# EAGLE library part AMP-174051-2_040_MULTILOCK (library Liu-Ford-ACP-AUX)
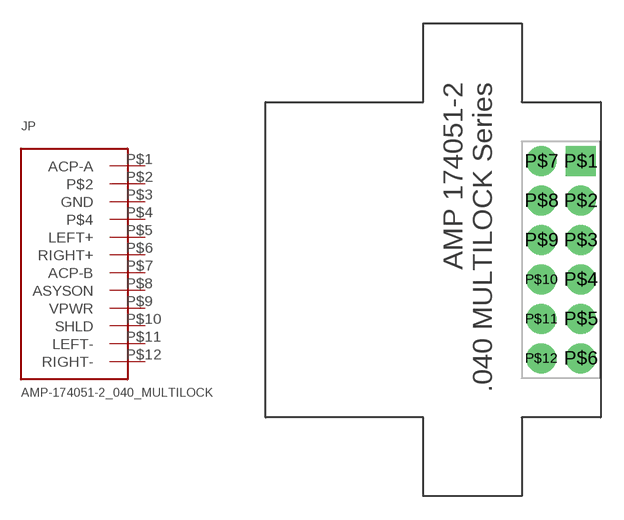
[diagram p0: symbol with the pads of AMP_174051-2_040_MULTILOCK; footprint AMP_174051-2_040_MULTILOCK]

Designator prefix JP

## AMP-174051-2_040_MULTILOCK  [AMP_174051-2_040_MULTILOCK]
P$1  ACP-A
P$2  P$2  nc
P$3  GND  pwr
P$4  P$4  nc
P$5  LEFT+  out
P$6  RIGHT+  out
P$7  ACP-B
P$8  ASYSON  in
P$9  VPWR  pwr
P$10  SHLD  pas
P$11  LEFT-  in
P$12  RIGHT-  in

## Footprint AMP_174051-2_040_MULTILOCK (pad centres in mm)
drill 1.016 pad 1.93 square: P$1 1.27,6.35
drill 1.016 pad 1.93: P$2 1.27,3.81; P$3 1.27,1.27; P$4 1.27,-1.27; P$5 1.27,-3.81; P$6 1.27,-6.35; P$7 -1.27,6.35; P$8 -1.27,3.81; P$9 -1.27,1.27; P$10 -1.27,-1.27; P$11 -1.27,-3.81; P$12 -1.27,-6.35